# Altium footprint library USB_A_PCB.PcbLib: 1 footprints
Each footprint in its own frame and in the unit in brackets; x right, y up, seen from the top. Pads: shape width x height; smd on the part's side, far side on the other; paste and mask are expansions set on the pad; w line width, h text height; cw(c..) or ccw(c..) is an arc to the next point about the centre after c.
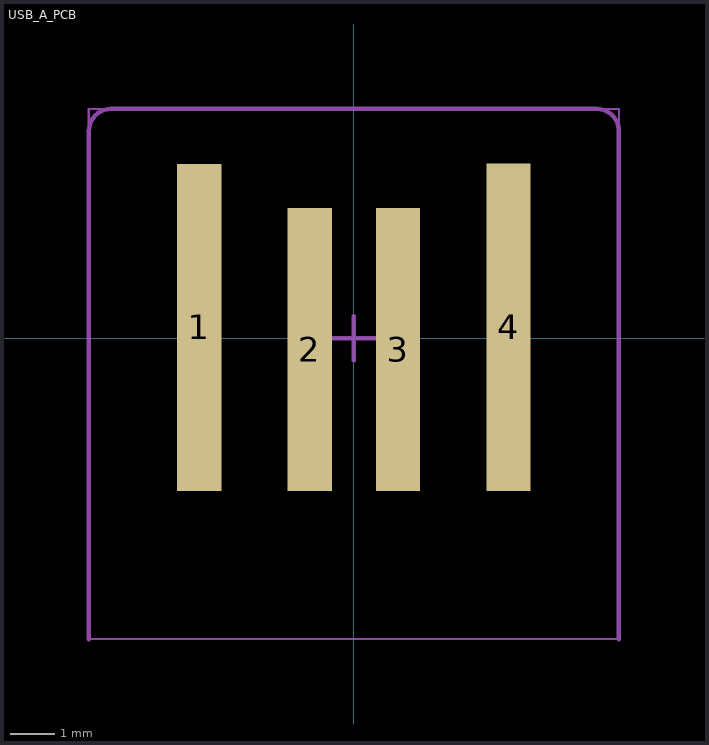
[diagram p0: the footprint, top view; thin cyan lines are the x and y axes]

## USB_A_PCB [mm]
pads (4):
  rect 1x7.4 smd: 1(-3.5,0.25)
  rect 1x6.41 smd: 2(-1,-0.25) 3(1,-0.25)
  rect 1x7.41 smd: 4(3.5,0.25)
Mechanical 2:
  lines w0.05: -6,-6.805 -6,5.195 6,5.195 6,-6.805 -6,-6.805
  lines w0.1: -0.5,0 0.5,0 ; 0,-0.5 0,0.5
Mechanical 3:
  lines w0.1: -6,-6.805 -6,4.695 cw(c-5.5,4.695) -5.5,5.195 5.5,5.195 cw(c5.5,4.695) 6,4.695 6,-6.805